# EAGLE library part MAX1648 (library m-pad-2.1)
Maxim's MAX1647 Chemistry-Independent Battery Chargers General Description: The MAX1647/MAX1648 provide the power control necessary to charge batteries of any chemistry. In the MAX1647, all charging functions are controlled through the Intel System Management Bus (SMBus?) interface. The SMBus 2-wire serial interface sets the charge voltage and current, and provides thermal status information. The MAX1647 functions as a level 2 charger, compliant with the Duracell/Intel Smart Battery Charger Specification. The MAX1648 omits the SMBus serial interface, and instead sets the charge voltage and current proportional to the voltage applied to external control pins. In addition to the feature set required for a level 2 charger, the MAX1647 generates interrupts to signal the host when power is applied to the charger or a battery is installed or removed. Additional status bits allow the host to check whether the charger has enough input voltage, and whether the voltage on or current into the battery is being regulated. This allows the host to determine when lithiumion batteries have completed charge without interrogating the battery. The MAX1647 is available in a 20-pin SSOP with a 2mm profile height. The MAX1648 is available in a 16-pin SO package. Features: Charges Any Battery Chemistry: Li-Ion, NiCd, NiMH, Lead Acid, etc. Intel SMBus 2-Wire Serial Interface (MAX1647) Intel/Duracell Level 2 Smart Battery Compliant (MAX1647) 4A, 2A, or 1A Maximum Battery-Charge Current 11-Bit Control of Charge Current Up to 18V Battery Voltage 10-Bit Control of Voltage ±0.75% Voltage Accuracy with External ±0.1% Reference Up to 28V Input Voltage Battery Thermistor Fail-Safe Protection Applications: Notebook Computers Personal Digital Assistants Charger Base Stations Phones Please send any comments to: messi@users.sourceforge.net
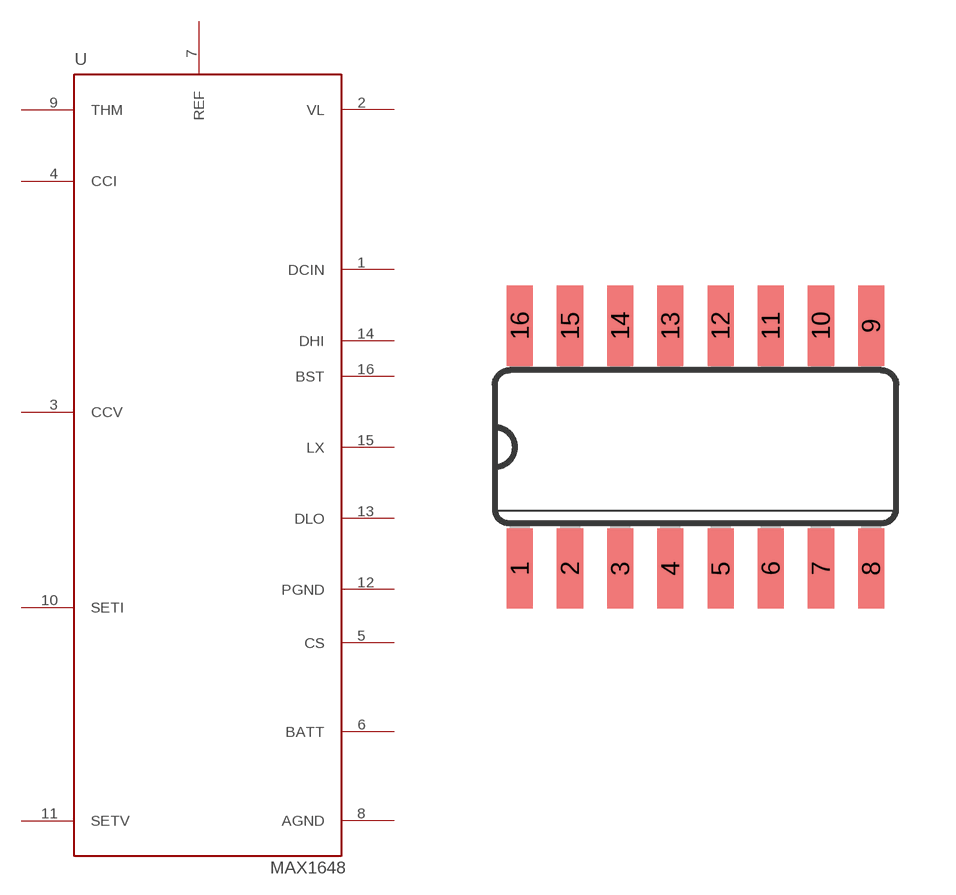
[diagram p51: symbol with the pads of SO16; footprint SO16]

Designator prefix U

## MAX1648  [SO16]
1  DCIN
2  VL
3  CCV
4  CCI
5  CS
6  BATT
7  REF
8  AGND
9  THM
10  SETI
11  SETV
12  PGND
13  DLO
14  DHI
15  LX
16  BST

## Footprint SO16 (pad centres in mm)
Small Outline Package
smd 0.66 x 2.032: 1 -4.445,-3.073; 2 -3.175,-3.073; 3 -1.905,-3.073; 4 -0.635,-3.073; 5 0.635,-3.073; 6 1.905,-3.073; 7 3.175,-3.073; 8 4.445,-3.073; 9 4.445,3.073; 10 3.175,3.073; 11 1.905,3.073; 12 0.635,3.073; 13 -0.635,3.073; 14 -1.905,3.073; 15 -3.175,3.073; 16 -4.445,3.073